# Altium integrated library Analog Devices Operational Amplifiers.IntLib: 2102 symbols (part 43 of 70)
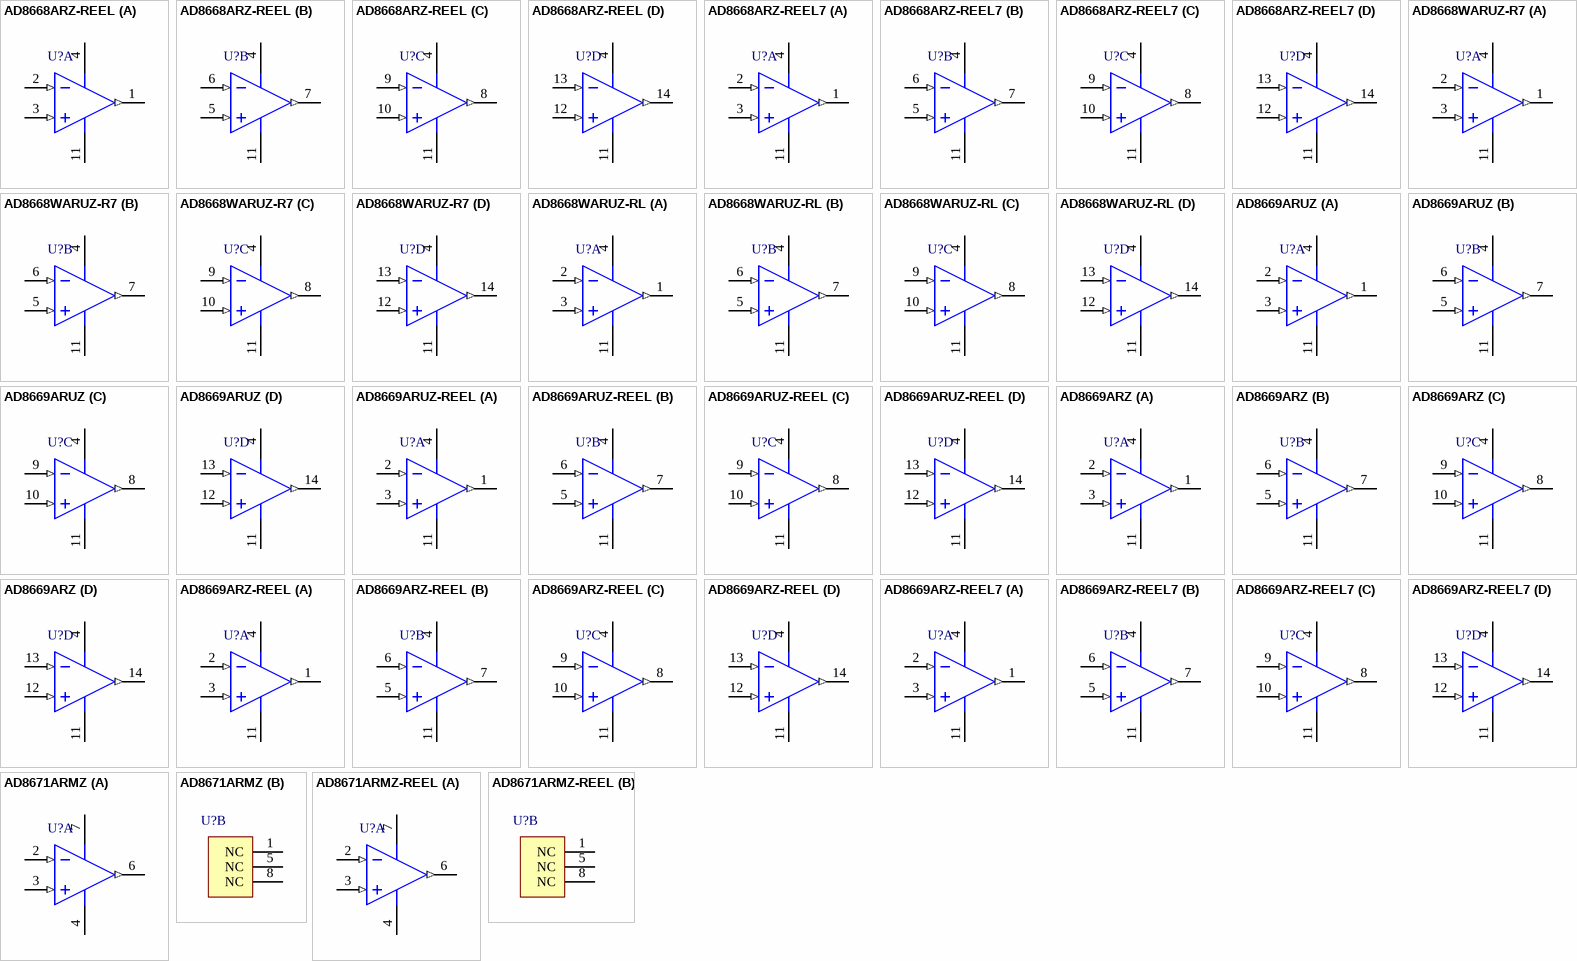
[diagram p156: symbols AD8668ARZ-REEL to AD8671ARMZ-REEL]

## AD8669ARUZ-REEL
designator U?
Quad Channel Single-Supply Operation Operational Amplifier, 520 KHz BW, 260 mV/us SR, Industrial, 14-pin SOP (RU-14), Reel; Generic Part Number: AD8669; Manufacturer: Analog Devices; PartNumber: AD8669ARUZ-REEL; Amplifiers Per Package: 4; Input Bias Current: 300fA; Input Offset Voltage: 30uV; Iq/Amp: 285uA; Small Signal Bandwidth: 520KHz; V Span Max: 16V; V Span Min: 5V; DatasheetVersion: Rev. B; PackageReference: RU-14; PackageDescription: 14-Pin Thin Shrink Small Outline Package, Body 5 x 4.4 mm, Pitch 0.65 mm; Supplier 1: Digi-Key; Supplier Part Number 1: AD8669ARUZ-REEL-ND; Supplier 2: Newark; Supplier Part Number 2: 02P7485; Slew Rate: 260mV/us; Mounting Technology: Surface Mount; Code_JEDEC: MO-153AB-1; ComponentLink1Description: Manufacturer URL; ComponentLink1URL: http://www.analog.com/en/index.html; ComponentLink2Description: Datasheet; ComponentLink2URL: http://www.analog.com/static/imported-files/data_sheets/AD8663_8667_8669.pdf; ComponentLink3Description: Package Specification; ComponentLink3URL: http://www.analog.com/static/imported-files/packages/36057385283879153717235186773RU14.pdf
footprint ADI-RU-14_N (SOP, 14-Leads, Body 5x4.4mm, Pitch 0.65mm, IPC Medium Density)
footprint ADI-RU-14_L (SOP, 14-Leads, Body 5x4.4mm, Pitch 0.65mm, IPC High Density)
footprint ADI-RU-14_M (SOP, 14-Leads, Body 5x4.4mm, Pitch 0.65mm, IPC Low Density)
pins on every part: 4 +V (power), 11 -V (power)
part A pins: 1 OUT A (out), 2 -IN A (in), 3 +IN A (in)
part B pins: 5 +IN B (in), 6 -IN B (in), 7 OUT B (out)
part C pins: 8 OUT C (out), 9 -IN C (in), 10 +IN C (in)
part D pins: 12 +IN D (in), 13 -IN D (in), 14 OUT D (out)

## AD8669ARZ
designator U?
Quad Channel Single-Supply Operation Operational Amplifier, 520 KHz BW, 260 mV/us SR, Industrial, 14-pin SOIC (R-14), Tube; Generic Part Number: AD8669; Manufacturer: Analog Devices; PartNumber: AD8669ARZ; Amplifiers Per Package: 4; Input Bias Current: 300fA; Input Offset Voltage: 30uV; Iq/Amp: 285uA; Small Signal Bandwidth: 520KHz; V Span Max: 16V; V Span Min: 5V; DatasheetVersion: Rev. B; PackageVersion: 060606-A; PackageReference: R-14; PackageDescription: 14-Pin Standard Small Outline Package, Body 8.65 x 3.9 mm, Pitch 1.27 mm; Supplier 1: Digi-Key; Supplier Part Number 1: AD8669ARZ-ND; Supplier 2: Newark; Supplier Part Number 2: 64M7596; Slew Rate: 260mV/us; Mounting Technology: Surface Mount; Code_JEDEC: MS-012-AB; ComponentLink1Description: Manufacturer URL; ComponentLink1URL: http://www.analog.com/en/index.html; ComponentLink2Description: Datasheet; ComponentLink2URL: http://www.analog.com/static/imported-files/data_sheets/AD8663_8667_8669.pdf; ComponentLink3Description: Package Specification; ComponentLink3URL: http://www.analog.com/static/imported-files/packages/PKG_PDF/SOIC_Narrow%20(R)/R_14.pdf
footprint ADI-R-14_N (SOIC, 14-Leads, Body 8.65x3.9mm, Pitch 1.27mm, IPC Medium Density)
footprint ADI-R-14_L (SOIC, 14-Leads, Body 8.65x3.9mm, Pitch 1.27mm, IPC High Density)
footprint ADI-R-14_M (SOIC, 14-Leads, Body 8.65x3.9mm, Pitch 1.27mm, IPC Low Density)
pins on every part: 4 +V (power), 11 -V (power)
part A pins: 1 OUT A (out), 2 -IN A (in), 3 +IN A (in)
part B pins: 5 +IN B (in), 6 -IN B (in), 7 OUT B (out)
part C pins: 8 OUT C (out), 9 -IN C (in), 10 +IN C (in)
part D pins: 12 +IN D (in), 13 -IN D (in), 14 OUT D (out)

## AD8669ARZ-REEL
designator U?
Quad Channel Single-Supply Operation Operational Amplifier, 520 KHz BW, 260 mV/us SR, Industrial, 14-pin SOIC (R-14), Reel; Generic Part Number: AD8669; Manufacturer: Analog Devices; PartNumber: AD8669ARZ-REEL; Amplifiers Per Package: 4; Input Bias Current: 300fA; Input Offset Voltage: 30uV; Iq/Amp: 285uA; Small Signal Bandwidth: 520KHz; V Span Max: 16V; V Span Min: 5V; DatasheetVersion: Rev. B; PackageVersion: 060606-A; PackageReference: R-14; PackageDescription: 14-Pin Standard Small Outline Package, Body 8.65 x 3.9 mm, Pitch 1.27 mm; Supplier 1: Digi-Key; Supplier Part Number 1: AD8669ARZ-REEL-ND; Slew Rate: 260mV/us; Mounting Technology: Surface Mount; Code_JEDEC: MS-012-AB; ComponentLink1Description: Manufacturer URL; ComponentLink1URL: http://www.analog.com/en/index.html; ComponentLink2Description: Datasheet; ComponentLink2URL: http://www.analog.com/static/imported-files/data_sheets/AD8663_8667_8669.pdf; ComponentLink3Description: Package Specification; ComponentLink3URL: http://www.analog.com/static/imported-files/packages/PKG_PDF/SOIC_Narrow%20(R)/R_14.pdf
footprint ADI-R-14_N (SOIC, 14-Leads, Body 8.65x3.9mm, Pitch 1.27mm, IPC Medium Density)
footprint ADI-R-14_L (SOIC, 14-Leads, Body 8.65x3.9mm, Pitch 1.27mm, IPC High Density)
footprint ADI-R-14_M (SOIC, 14-Leads, Body 8.65x3.9mm, Pitch 1.27mm, IPC Low Density)
pins on every part: 4 +V (power), 11 -V (power)
part A pins: 1 OUT A (out), 2 -IN A (in), 3 +IN A (in)
part B pins: 5 +IN B (in), 6 -IN B (in), 7 OUT B (out)
part C pins: 8 OUT C (out), 9 -IN C (in), 10 +IN C (in)
part D pins: 12 +IN D (in), 13 -IN D (in), 14 OUT D (out)

## AD8669ARZ-REEL7
designator U?
Quad Channel Single-Supply Operation Operational Amplifier, 520 KHz BW, 260 mV/us SR, Industrial, 14-pin SOIC (R-14), Reel; Generic Part Number: AD8669; Manufacturer: Analog Devices; PartNumber: AD8669ARZ-REEL7; Amplifiers Per Package: 4; Input Bias Current: 300fA; Input Offset Voltage: 30uV; Iq/Amp: 285uA; Small Signal Bandwidth: 520KHz; V Span Max: 16V; V Span Min: 5V; DatasheetVersion: Rev. B; PackageVersion: 060606-A; PackageReference: R-14; PackageDescription: 14-Pin Standard Small Outline Package, Body 8.65 x 3.9 mm, Pitch 1.27 mm; Supplier 1: Digi-Key; Supplier Part Number 1: AD8669ARZ-REEL7-ND; Slew Rate: 260mV/us; Mounting Technology: Surface Mount; Code_JEDEC: MS-012-AB; ComponentLink1Description: Manufacturer URL; ComponentLink1URL: http://www.analog.com/en/index.html; ComponentLink2Description: Datasheet; ComponentLink2URL: http://www.analog.com/static/imported-files/data_sheets/AD8663_8667_8669.pdf; ComponentLink3Description: Package Specification; ComponentLink3URL: http://www.analog.com/static/imported-files/packages/PKG_PDF/SOIC_Narrow%20(R)/R_14.pdf
footprint ADI-R-14_N (SOIC, 14-Leads, Body 8.65x3.9mm, Pitch 1.27mm, IPC Medium Density)
footprint ADI-R-14_L (SOIC, 14-Leads, Body 8.65x3.9mm, Pitch 1.27mm, IPC High Density)
footprint ADI-R-14_M (SOIC, 14-Leads, Body 8.65x3.9mm, Pitch 1.27mm, IPC Low Density)
pins on every part: 4 +V (power), 11 -V (power)
part A pins: 1 OUT A (out), 2 -IN A (in), 3 +IN A (in)
part B pins: 5 +IN B (in), 6 -IN B (in), 7 OUT B (out)
part C pins: 8 OUT C (out), 9 -IN C (in), 10 +IN C (in)
part D pins: 12 +IN D (in), 13 -IN D (in), 14 OUT D (out)

## AD8671ARMZ
designator U?
Single Channel Wide Bandwidth Operational Amplifier, 10 MHz BW, 4 V/us SR, Industrial, 8-pin SOP (RM-8), Tube; Generic Part Number: AD8671; Manufacturer: Analog Devices; PartNumber: AD8671ARMZ; Amplifiers Per Package: 1; Input Bias Current: 3nA; Input Offset Voltage: 20uV; Iq/Amp: 3.5mA; Slew Rate: 4V/us; Small Signal Bandwidth: 10MHz; V Span Max: 36V; V Span Min: 10V; DatasheetVersion: Rev. E; PackageReference: RM-8; PackageDescription: 8-Pin Mini Small Outline Package, Body 3 x 3 mm, Pitch 0.65 mm; Supplier 1: Digi-Key; Supplier Part Number 1: AD8671ARMZ-ND; Supplier 2: Farnell; Supplier Part Number 2: 1739328; Supplier 3: Newark; Supplier Part Number 3: 19P8315; Mounting Technology: Surface Mount; Code_JEDEC: MO-187-AA; ComponentLink1Description: Manufacturer URL; ComponentLink1URL: http://www.analog.com/en/index.html; ComponentLink2Description: Datasheet; ComponentLink2URL: http://www.analog.com/static/imported-files/data_sheets/AD8671_8672_8674.pdf; ComponentLink3Description: Package Specification; ComponentLink3URL: http://www.analog.com/static/imported-files/packages/PKG_PDF/MSOP%28RM%29/RM_8.pdf
footprint ADI-RM-8_N (SOP, 8-Leads, Body 3x3mm, Pitch 0.65mm, IPC Medium Density)
footprint ADI-RM-8_L (SOP, 8-Leads, Body 3x3mm, Pitch 0.65mm, IPC High Density)
footprint ADI-RM-8_M (SOP, 8-Leads, Body 3x3mm, Pitch 0.65mm, IPC Low Density)
part A pins: 2 -IN (in), 3 +IN (in), 4 -V (power), 6 OUT (out), 7 +V (power)
part B pins: 1 NC, 5 NC, 8 NC

## AD8671ARMZ-REEL
designator U?
Single Channel Wide Bandwidth Operational Amplifier, 10 MHz BW, 4 V/us SR, Industrial, 8-pin SOP (RM-8), Reel; Generic Part Number: AD8671; Manufacturer: Analog Devices; PartNumber: AD8671ARMZ-REEL; Amplifiers Per Package: 1; Input Bias Current: 3nA; Input Offset Voltage: 20uV; Iq/Amp: 3.5mA; Slew Rate: 4V/us; Small Signal Bandwidth: 10MHz; V Span Max: 36V; V Span Min: 10V; DatasheetVersion: Rev. E; PackageReference: RM-8; PackageDescription: 8-Pin Mini Small Outline Package, Body 3 x 3 mm, Pitch 0.65 mm; Supplier 1: Digi-Key; Supplier Part Number 1: AD8671ARMZ-REELTR-ND; Supplier 2: Digi-Key; Supplier Part Number 2: AD8671ARMZ-REELCT-ND; Supplier 3: Digi-Key; Supplier Part Number 3: AD8671ARMZ-REELDKR-ND; Supplier 4: Newark; Supplier Part Number 4: 59K7060; Mounting Technology: Surface Mount; Code_JEDEC: MO-187-AA; ComponentLink1Description: Manufacturer URL; ComponentLink1URL: http://www.analog.com/en/index.html; ComponentLink2Description: Datasheet; ComponentLink2URL: http://www.analog.com/static/imported-files/data_sheets/AD8671_8672_8674.pdf; ComponentLink3Description: Package Specification; ComponentLink3URL: http://www.analog.com/static/imported-files/packages/PKG_PDF/MSOP%28RM%29/RM_8.pdf
footprint ADI-RM-8_N (SOP, 8-Leads, Body 3x3mm, Pitch 0.65mm, IPC Medium Density)
footprint ADI-RM-8_L (SOP, 8-Leads, Body 3x3mm, Pitch 0.65mm, IPC High Density)
footprint ADI-RM-8_M (SOP, 8-Leads, Body 3x3mm, Pitch 0.65mm, IPC Low Density)
part A pins: 2 -IN (in), 3 +IN (in), 4 -V (power), 6 OUT (out), 7 +V (power)
part B pins: 1 NC, 5 NC, 8 NC

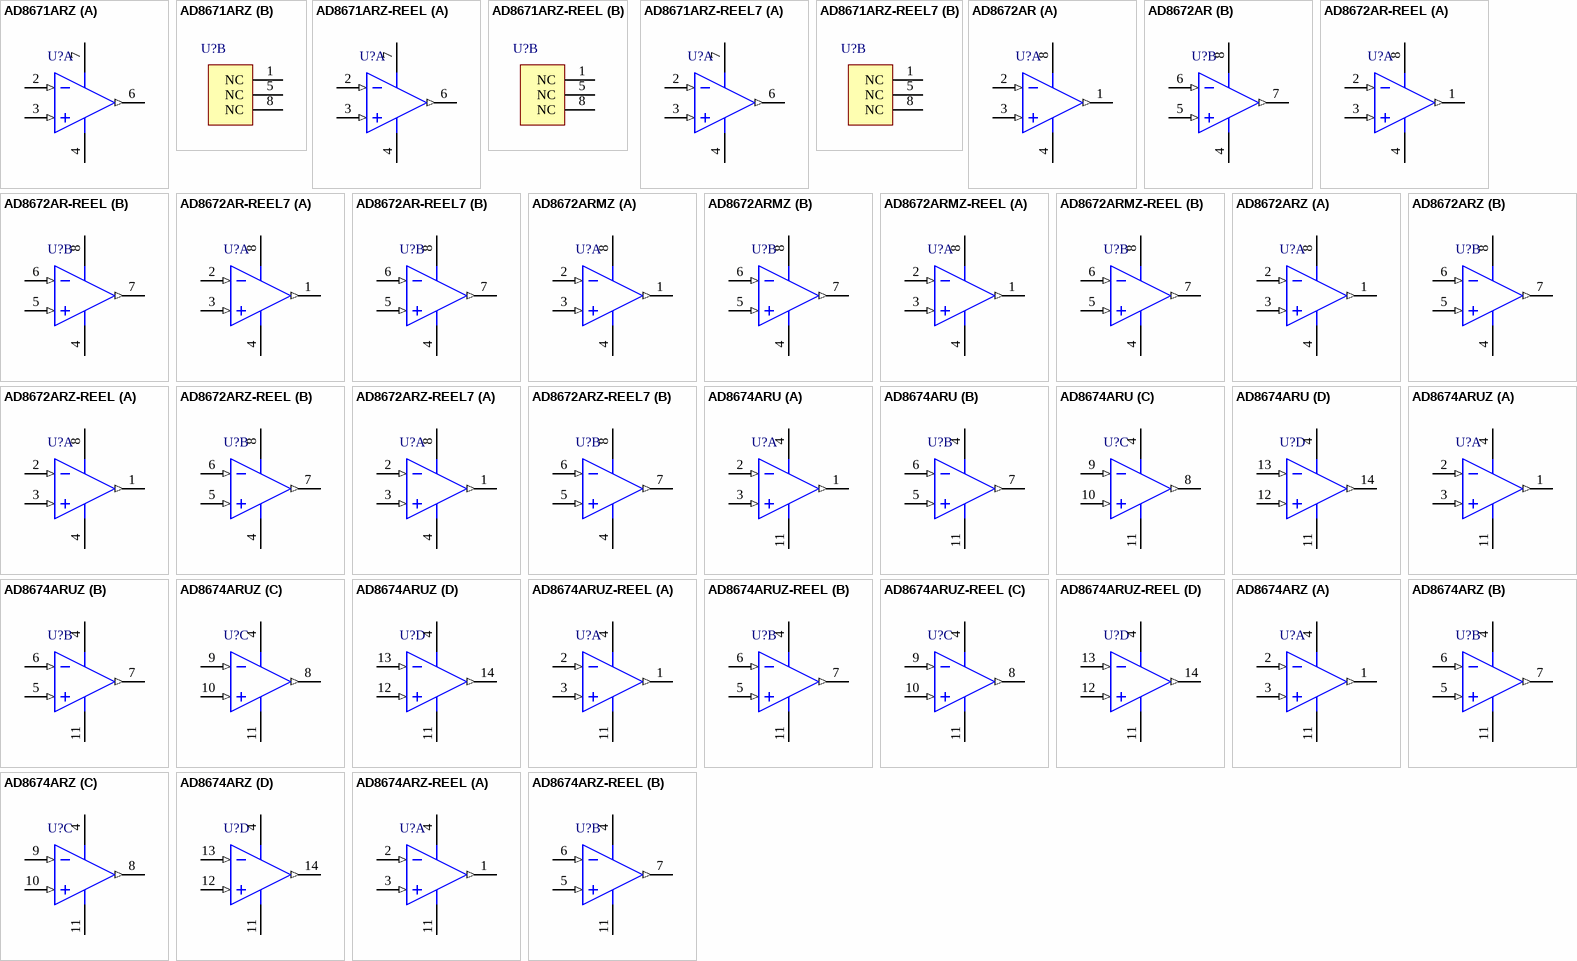
[diagram p67: symbols AD8671ARZ to AD8674ARZ-REEL]

## AD8671ARZ
designator U?
Single Channel Wide Bandwidth Operational Amplifier, 10 MHz BW, 4 V/us SR, Industrial, 8-pin SOIC (R-8), Tube; Generic Part Number: AD8671; Manufacturer: Analog Devices; PartNumber: AD8671ARZ; Amplifiers Per Package: 1; Input Bias Current: 3nA; Input Offset Voltage: 20uV; Iq/Amp: 3.5mA; Slew Rate: 4V/us; Small Signal Bandwidth: 10MHz; V Span Max: 36V; V Span Min: 10V; DatasheetVersion: Rev. E; PackageVersion: 060506-A; PackageReference: R-8; PackageDescription: 8-Pin Standard Small Outline Package, Body 3.9 x 4.9 mm, Pitch 1.27 mm; Supplier 1: Digi-Key; Supplier Part Number 1: AD8671ARZ-ND; Supplier 2: Farnell; Supplier Part Number 2: 1143298; Supplier 3: Newark; Supplier Part Number 3: 19M0998; Mounting Technology: Surface Mount; Code_JEDEC: MS-012-AA; ComponentLink1Description: Manufacturer URL; ComponentLink1URL: http://www.analog.com/en/index.html; ComponentLink2Description: Datasheet; ComponentLink2URL: http://www.analog.com/static/imported-files/data_sheets/AD8671_8672_8674.pdf; ComponentLink3Description: Package Specification; ComponentLink3URL: http://www.analog.com/static/imported-files/packages/PKG_PDF/SOIC_Narrow%20(R)/R_8.pdf
footprint ADI-R-8_N (SOIC, 8-Leads, Body 4.9x3.9mm, Pitch 1.27mm, IPC Medium Density)
footprint ADI-R-8_L (SOIC, 8-Leads, Body 4.9x3.9mm, Pitch 1.27mm, IPC High Density)
footprint ADI-R-8_M (SOIC, 8-Leads, Body 4.9x3.9mm, Pitch 1.27mm, IPC Low Density)
part A pins: 2 -IN (in), 3 +IN (in), 4 -V (power), 6 OUT (out), 7 +V (power)
part B pins: 1 NC, 5 NC, 8 NC

## AD8671ARZ-REEL
designator U?
Single Channel Wide Bandwidth Operational Amplifier, 10 MHz BW, 4 V/us SR, Industrial, 8-pin SOIC (R-8), Reel; Generic Part Number: AD8671; Manufacturer: Analog Devices; PartNumber: AD8671ARZ-REEL; Amplifiers Per Package: 1; Input Bias Current: 3nA; Input Offset Voltage: 20uV; Iq/Amp: 3.5mA; Slew Rate: 4V/us; Small Signal Bandwidth: 10MHz; V Span Max: 36V; V Span Min: 10V; DatasheetVersion: Rev. E; PackageVersion: 060506-A; PackageReference: R-8; PackageDescription: 8-Pin Standard Small Outline Package, Body 3.9 x 4.9 mm, Pitch 1.27 mm; Supplier 1: Digi-Key; Supplier Part Number 1: AD8671ARZ-REEL-ND; Supplier 2: Newark; Supplier Part Number 2: 59K7063; Mounting Technology: Surface Mount; Code_JEDEC: MS-012-AA; ComponentLink1Description: Manufacturer URL; ComponentLink1URL: http://www.analog.com/en/index.html; ComponentLink2Description: Datasheet; ComponentLink2URL: http://www.analog.com/static/imported-files/data_sheets/AD8671_8672_8674.pdf; ComponentLink3Description: Package Specification; ComponentLink3URL: http://www.analog.com/static/imported-files/packages/PKG_PDF/SOIC_Narrow%20(R)/R_8.pdf
footprint ADI-R-8_N (SOIC, 8-Leads, Body 4.9x3.9mm, Pitch 1.27mm, IPC Medium Density)
footprint ADI-R-8_L (SOIC, 8-Leads, Body 4.9x3.9mm, Pitch 1.27mm, IPC High Density)
footprint ADI-R-8_M (SOIC, 8-Leads, Body 4.9x3.9mm, Pitch 1.27mm, IPC Low Density)
part A pins: 2 -IN (in), 3 +IN (in), 4 -V (power), 6 OUT (out), 7 +V (power)
part B pins: 1 NC, 5 NC, 8 NC

## AD8671ARZ-REEL7
designator U?
Single Channel Wide Bandwidth Operational Amplifier, 10 MHz BW, 4 V/us SR, Industrial, 8-pin SOIC (R-8), Reel; Generic Part Number: AD8671; Manufacturer: Analog Devices; PartNumber: AD8671ARZ-REEL7; Amplifiers Per Package: 1; Input Bias Current: 3nA; Input Offset Voltage: 20uV; Iq/Amp: 3.5mA; Slew Rate: 4V/us; Small Signal Bandwidth: 10MHz; V Span Max: 36V; V Span Min: 10V; DatasheetVersion: Rev. E; PackageVersion: 060506-A; PackageReference: R-8; PackageDescription: 8-Pin Standard Small Outline Package, Body 3.9 x 4.9 mm, Pitch 1.27 mm; Supplier 1: Digi-Key; Supplier Part Number 1: AD8671ARZ-REEL7-ND; Supplier 2: Newark; Supplier Part Number 2: 59K7064; Mounting Technology: Surface Mount; Code_JEDEC: MS-012-AA; ComponentLink1Description: Manufacturer URL; ComponentLink1URL: http://www.analog.com/en/index.html; ComponentLink2Description: Datasheet; ComponentLink2URL: http://www.analog.com/static/imported-files/data_sheets/AD8671_8672_8674.pdf; ComponentLink3Description: Package Specification; ComponentLink3URL: http://www.analog.com/static/imported-files/packages/PKG_PDF/SOIC_Narrow%20(R)/R_8.pdf
footprint ADI-R-8_N (SOIC, 8-Leads, Body 4.9x3.9mm, Pitch 1.27mm, IPC Medium Density)
footprint ADI-R-8_L (SOIC, 8-Leads, Body 4.9x3.9mm, Pitch 1.27mm, IPC High Density)
footprint ADI-R-8_M (SOIC, 8-Leads, Body 4.9x3.9mm, Pitch 1.27mm, IPC Low Density)
part A pins: 2 -IN (in), 3 +IN (in), 4 -V (power), 6 OUT (out), 7 +V (power)
part B pins: 1 NC, 5 NC, 8 NC

## AD8672AR
designator U?
Double Channel Wide Bandwidth Operational Amplifier, 10 MHz BW, 4 V/us SR, Industrial, 8-pin SOIC (R-8), Tube; Generic Part Number: AD8672; Manufacturer: Analog Devices; PartNumber: AD8672AR; Amplifiers Per Package: 2; Input Bias Current: 3nA; Input Offset Voltage: 20uV; Iq/Amp: 3.5mA; Slew Rate: 4V/us; Small Signal Bandwidth: 10MHz; V Span Max: 36V; V Span Min: 10V; DatasheetVersion: Rev. E; PackageVersion: 060506-A; PackageReference: R-8; PackageDescription: 8-Pin Standard Small Outline Package, Body 3.9 x 4.9 mm, Pitch 1.27 mm; Supplier 1: Digi-Key; Supplier Part Number 1: AD8672AR-ND; Mounting Technology: Surface Mount; Code_JEDEC: MS-012-AA; ComponentLink1Description: Manufacturer URL; ComponentLink1URL: http://www.analog.com/en/index.html; ComponentLink2Description: Datasheet; ComponentLink2URL: http://www.analog.com/static/imported-files/data_sheets/AD8671_8672_8674.pdf; ComponentLink3Description: Package Specification; ComponentLink3URL: http://www.analog.com/static/imported-files/packages/PKG_PDF/SOIC_Narrow%20(R)/R_8.pdf; ComponentLink4Description: Reference Circuit; ComponentLink4URL: http://www.analog.com/en/all-operational-amplifiers-op-amps/operational-amplifiers-op-amps/ad8672/products/product.html#product-recommendations
footprint ADI-R-8_N (SOIC, 8-Leads, Body 4.9x3.9mm, Pitch 1.27mm, IPC Medium Density)
footprint ADI-R-8_L (SOIC, 8-Leads, Body 4.9x3.9mm, Pitch 1.27mm, IPC High Density)
footprint ADI-R-8_M (SOIC, 8-Leads, Body 4.9x3.9mm, Pitch 1.27mm, IPC Low Density)
pins on every part: 4 -V (power), 8 +V (power)
part A pins: 1 OUT A (out), 2 -IN A (in), 3 +IN A (in)
part B pins: 5 +IN B (in), 6 -IN B (in), 7 OUT B (out)

## AD8672AR-REEL
designator U?
Double Channel Wide Bandwidth Operational Amplifier, 10 MHz BW, 4 V/us SR, Industrial, 8-pin SOIC (R-8), Reel; Generic Part Number: AD8672; Manufacturer: Analog Devices; PartNumber: AD8672AR-REEL; Amplifiers Per Package: 2; Input Bias Current: 3nA; Input Offset Voltage: 20uV; Iq/Amp: 3.5mA; Slew Rate: 4V/us; Small Signal Bandwidth: 10MHz; V Span Max: 30V; V Span Min: 10V; DatasheetVersion: Rev. E; PackageVersion: 060506-A; PackageReference: R-8; PackageDescription: 8-Pin Standard Small Outline Package, Body 3.9 x 4.9 mm, Pitch 1.27 mm; Supplier 1: Digi-Key; Supplier Part Number 1: AD8672AR-REEL-ND; Mounting Technology: Surface Mount; Code_JEDEC: MS-012-AA; ComponentLink1Description: Manufacturer URL; ComponentLink1URL: http://www.analog.com/en/index.html; ComponentLink2Description: Datasheet; ComponentLink2URL: http://www.analog.com/static/imported-files/data_sheets/AD8671_8672_8674.pdf; ComponentLink3Description: Package Specification; ComponentLink3URL: http://www.analog.com/static/imported-files/packages/PKG_PDF/SOIC_Narrow%20(R)/R_8.pdf; ComponentLink4Description: Reference Circuit; ComponentLink4URL: http://www.analog.com/en/all-operational-amplifiers-op-amps/operational-amplifiers-op-amps/ad8672/products/product.html#product-recommendations
footprint ADI-R-8_N (SOIC, 8-Leads, Body 4.9x3.9mm, Pitch 1.27mm, IPC Medium Density)
footprint ADI-R-8_L (SOIC, 8-Leads, Body 4.9x3.9mm, Pitch 1.27mm, IPC High Density)
footprint ADI-R-8_M (SOIC, 8-Leads, Body 4.9x3.9mm, Pitch 1.27mm, IPC Low Density)
pins on every part: 4 -V (power), 8 +V (power)
part A pins: 1 OUT A (out), 2 -IN A (in), 3 +IN A (in)
part B pins: 5 +IN B (in), 6 -IN B (in), 7 OUT B (out)

## AD8672AR-REEL7
designator U?
Double Channel Wide Bandwidth Operational Amplifier, 10 MHz BW, 4 V/us SR, Industrial, 8-pin SOIC (R-8), Reel; Generic Part Number: AD8672; Manufacturer: Analog Devices; PartNumber: AD8672AR-REEL7; Amplifiers Per Package: 2; Input Bias Current: 3nA; Input Offset Voltage: 20uV; Iq/Amp: 3.5mA; Slew Rate: 4V/us; Small Signal Bandwidth: 10MHz; V Span Max: 30V; V Span Min: 10V; DatasheetVersion: Rev. E; PackageVersion: 060506-A; PackageReference: R-8; PackageDescription: 8-Pin Standard Small Outline Package, Body 3.9 x 4.9 mm, Pitch 1.27 mm; Supplier 1: Digi-Key; Supplier Part Number 1: AD8672AR-REEL7-ND; Mounting Technology: Surface Mount; Code_JEDEC: MS-012-AA; ComponentLink1Description: Manufacturer URL; ComponentLink1URL: http://www.analog.com/en/index.html; ComponentLink2Description: Datasheet; ComponentLink2URL: http://www.analog.com/static/imported-files/data_sheets/AD8671_8672_8674.pdf; ComponentLink3Description: Package Specification; ComponentLink3URL: http://www.analog.com/static/imported-files/packages/PKG_PDF/SOIC_Narrow%20(R)/R_8.pdf; ComponentLink4Description: Reference Circuit; ComponentLink4URL: http://www.analog.com/en/all-operational-amplifiers-op-amps/operational-amplifiers-op-amps/ad8672/products/product.html#product-recommendations
footprint ADI-R-8_N (SOIC, 8-Leads, Body 4.9x3.9mm, Pitch 1.27mm, IPC Medium Density)
footprint ADI-R-8_L (SOIC, 8-Leads, Body 4.9x3.9mm, Pitch 1.27mm, IPC High Density)
footprint ADI-R-8_M (SOIC, 8-Leads, Body 4.9x3.9mm, Pitch 1.27mm, IPC Low Density)
pins on every part: 4 -V (power), 8 +V (power)
part A pins: 1 OUT A (out), 2 -IN A (in), 3 +IN A (in)
part B pins: 5 +IN B (in), 6 -IN B (in), 7 OUT B (out)

## AD8672ARMZ
designator U?
Double Channel Wide Bandwidth Operational Amplifier, 10 MHz BW, 4 V/us SR, Industrial, 8-pin SOP (RM-8), Tube; Generic Part Number: AD8672; Manufacturer: Analog Devices; PartNumber: AD8672ARMZ; Amplifiers Per Package: 2; Input Bias Current: 3nA; Input Offset Voltage: 20uV; Iq/Amp: 3.5mA; Slew Rate: 4V/us; Small Signal Bandwidth: 10MHz; V Span Max: 30V; V Span Min: 10V; DatasheetVersion: Rev. E; PackageReference: RM-8; PackageDescription: 8-Pin Mini Small Outline Package, Body 3 x 3 mm, Pitch 0.65 mm; Supplier 1: Digi-Key; Supplier Part Number 1: AD8672ARMZ-ND; Supplier 2: Farnell; Supplier Part Number 2: 2102512; Supplier 3: Newark; Supplier Part Number 3: 19P8316; Mounting Technology: Surface Mount; Code_JEDEC: MO-187-AA; ComponentLink1Description: Manufacturer URL; ComponentLink1URL: http://www.analog.com/en/index.html; ComponentLink2Description: Datasheet; ComponentLink2URL: http://www.analog.com/static/imported-files/data_sheets/AD8671_8672_8674.pdf; ComponentLink3Description: Package Specification; ComponentLink3URL: http://www.analog.com/static/imported-files/packages/PKG_PDF/MSOP%28RM%29/RM_8.pdf; ComponentLink4Description: Reference Circuit; ComponentLink4URL: http://www.analog.com/en/all-operational-amplifiers-op-amps/operational-amplifiers-op-amps/ad8672/products/product.html#product-recommendations
footprint ADI-RM-8_N (SOP, 8-Leads, Body 3x3mm, Pitch 0.65mm, IPC Medium Density)
footprint ADI-RM-8_L (SOP, 8-Leads, Body 3x3mm, Pitch 0.65mm, IPC High Density)
footprint ADI-RM-8_M (SOP, 8-Leads, Body 3x3mm, Pitch 0.65mm, IPC Low Density)
pins on every part: 4 -V (power), 8 +V (power)
part A pins: 1 OUT A (out), 2 -IN A (in), 3 +IN A (in)
part B pins: 5 +IN B (in), 6 -IN B (in), 7 OUT B (out)

## AD8672ARMZ-REEL
designator U?
Double Channel Wide Bandwidth Operational Amplifier, 10 MHz BW, 4 V/us SR, Industrial, 8-pin SOP (RM-8), Reel; Generic Part Number: AD8672; Manufacturer: Analog Devices; PartNumber: AD8672ARMZ-REEL; Amplifiers Per Package: 2; Input Bias Current: 3nA; Input Offset Voltage: 20uV; Iq/Amp: 3.5mA; Slew Rate: 4V/us; Small Signal Bandwidth: 10MHz; V Span Max: 30V; V Span Min: 10V; DatasheetVersion: Rev. E; PackageReference: RM-8; PackageDescription: 8-Pin Mini Small Outline Package, Body 3 x 3 mm, Pitch 0.65 mm; Supplier 1: Digi-Key; Supplier Part Number 1: AD8672ARMZ-REELTR-ND; Supplier 2: Digi-Key; Supplier Part Number 2: AD8672ARMZ-REELCT-ND; Supplier 3: Digi-Key; Supplier Part Number 3: AD8672ARMZ-REELDKR-ND; Supplier 4: Newark; Supplier Part Number 4: 59K7065; Mounting Technology: Surface Mount; Code_JEDEC: MO-187-AA; ComponentLink1Description: Manufacturer URL; ComponentLink1URL: http://www.analog.com/en/index.html; ComponentLink2Description: Datasheet; ComponentLink2URL: http://www.analog.com/static/imported-files/data_sheets/AD8671_8672_8674.pdf; ComponentLink3Description: Package Specification; ComponentLink3URL: http://www.analog.com/static/imported-files/packages/PKG_PDF/MSOP%28RM%29/RM_8.pdf; ComponentLink4Description: Reference Circuit; ComponentLink4URL: http://www.analog.com/en/all-operational-amplifiers-op-amps/operational-amplifiers-op-amps/ad8672/products/product.html#product-recommendations
footprint ADI-RM-8_N (SOP, 8-Leads, Body 3x3mm, Pitch 0.65mm, IPC Medium Density)
footprint ADI-RM-8_L (SOP, 8-Leads, Body 3x3mm, Pitch 0.65mm, IPC High Density)
footprint ADI-RM-8_M (SOP, 8-Leads, Body 3x3mm, Pitch 0.65mm, IPC Low Density)
pins on every part: 4 -V (power), 8 +V (power)
part A pins: 1 OUT A (out), 2 -IN A (in), 3 +IN A (in)
part B pins: 5 +IN B (in), 6 -IN B (in), 7 OUT B (out)

## AD8672ARZ
designator U?
Double Channel Wide Bandwidth Operational Amplifier, 10 MHz BW, 4 V/us SR, Industrial, 8-pin SOIC (R-8), Tube; Generic Part Number: AD8672; Manufacturer: Analog Devices; PartNumber: AD8672ARZ; Amplifiers Per Package: 2; Input Bias Current: 3nA; Input Offset Voltage: 20uV; Iq/Amp: 3.5mA; Slew Rate: 4V/us; Small Signal Bandwidth: 10MHz; V Span Max: 30V; V Span Min: 10V; DatasheetVersion: Rev. E; PackageVersion: 060506-A; PackageReference: R-8; PackageDescription: 8-Pin Standard Small Outline Package, Body 3.9 x 4.9 mm, Pitch 1.27 mm; Supplier 1: Digi-Key; Supplier Part Number 1: AD8672ARZ-ND; Supplier 2: Farnell; Supplier Part Number 2: 1581957; Supplier 3: Newark; Supplier Part Number 3: 19M0999; Mounting Technology: Surface Mount; Code_JEDEC: MS-012-AA; ComponentLink1Description: Manufacturer URL; ComponentLink1URL: http://www.analog.com/en/index.html; ComponentLink2Description: Datasheet; ComponentLink2URL: http://www.analog.com/static/imported-files/data_sheets/AD8671_8672_8674.pdf; ComponentLink3Description: Package Specification; ComponentLink3URL: http://www.analog.com/static/imported-files/packages/PKG_PDF/SOIC_Narrow%20(R)/R_8.pdf; ComponentLink4Description: Reference Circuit; ComponentLink4URL: http://www.analog.com/en/all-operational-amplifiers-op-amps/operational-amplifiers-op-amps/ad8672/products/product.html#product-recommendations
footprint ADI-R-8_N (SOIC, 8-Leads, Body 4.9x3.9mm, Pitch 1.27mm, IPC Medium Density)
footprint ADI-R-8_L (SOIC, 8-Leads, Body 4.9x3.9mm, Pitch 1.27mm, IPC High Density)
footprint ADI-R-8_M (SOIC, 8-Leads, Body 4.9x3.9mm, Pitch 1.27mm, IPC Low Density)
pins on every part: 4 -V (power), 8 +V (power)
part A pins: 1 OUT A (out), 2 -IN A (in), 3 +IN A (in)
part B pins: 5 +IN B (in), 6 -IN B (in), 7 OUT B (out)

## AD8672ARZ-REEL
designator U?
Double Channel Wide Bandwidth Operational Amplifier, 10 MHz BW, 4 V/us SR, Industrial, 8-pin SOIC (R-8), Reel; Generic Part Number: AD8672; Manufacturer: Analog Devices; PartNumber: AD8672ARZ-REEL; Amplifiers Per Package: 2; Input Bias Current: 3nA; Input Offset Voltage: 20uV; Iq/Amp: 3.5mA; Slew Rate: 4V/us; Small Signal Bandwidth: 10MHz; V Span Max: 30V; V Span Min: 10V; DatasheetVersion: Rev. E; PackageVersion: 060506-A; PackageReference: R-8; PackageDescription: 8-Pin Standard Small Outline Package, Body 3.9 x 4.9 mm, Pitch 1.27 mm; Supplier 1: Digi-Key; Supplier Part Number 1: AD8672ARZ-REEL-ND; Supplier 2: Newark; Supplier Part Number 2: 59K7068; Mounting Technology: Surface Mount; Code_JEDEC: MS-012-AA; ComponentLink1Description: Manufacturer URL; ComponentLink1URL: http://www.analog.com/en/index.html; ComponentLink2Description: Datasheet; ComponentLink2URL: http://www.analog.com/static/imported-files/data_sheets/AD8671_8672_8674.pdf; ComponentLink3Description: Package Specification; ComponentLink3URL: http://www.analog.com/static/imported-files/packages/PKG_PDF/SOIC_Narrow%20(R)/R_8.pdf; ComponentLink4Description: Reference Circuit; ComponentLink4URL: http://www.analog.com/en/all-operational-amplifiers-op-amps/operational-amplifiers-op-amps/ad8672/products/product.html#product-recommendations
footprint ADI-R-8_N (SOIC, 8-Leads, Body 4.9x3.9mm, Pitch 1.27mm, IPC Medium Density)
footprint ADI-R-8_L (SOIC, 8-Leads, Body 4.9x3.9mm, Pitch 1.27mm, IPC High Density)
footprint ADI-R-8_M (SOIC, 8-Leads, Body 4.9x3.9mm, Pitch 1.27mm, IPC Low Density)
pins on every part: 4 -V (power), 8 +V (power)
part A pins: 1 OUT A (out), 2 -IN A (in), 3 +IN A (in)
part B pins: 5 +IN B (in), 6 -IN B (in), 7 OUT B (out)

## AD8672ARZ-REEL7
designator U?
Double Channel Wide Bandwidth Operational Amplifier, 10 MHz BW, 4 V/us SR, Industrial, 8-pin SOIC (R-8), Reel; Generic Part Number: AD8672; Manufacturer: Analog Devices; PartNumber: AD8672ARZ-REEL7; Amplifiers Per Package: 2; Input Bias Current: 3nA; Input Offset Voltage: 20uV; Iq/Amp: 3.5mA; Slew Rate: 4V/us; Small Signal Bandwidth: 10MHz; V Span Max: 30V; V Span Min: 10V; DatasheetVersion: Rev. E; PackageVersion: 060506-A; PackageReference: R-8; PackageDescription: 8-Pin Standard Small Outline Package, Body 3.9 x 4.9 mm, Pitch 1.27 mm; Supplier 1: Digi-Key; Supplier Part Number 1: AD8672ARZ-REEL7TR-ND; Supplier 2: Digi-Key; Supplier Part Number 2: AD8672ARZ-REEL7CT-ND; Supplier 3: Digi-Key; Supplier Part Number 3: AD8672ARZ-REEL7DKR-ND; Supplier 4: Newark; Supplier Part Number 4: 59K7069; Mounting Technology: Surface Mount; Code_JEDEC: MS-012-AA; ComponentLink1Description: Manufacturer URL; ComponentLink1URL: http://www.analog.com/en/index.html; ComponentLink2Description: Datasheet; ComponentLink2URL: http://www.analog.com/static/imported-files/data_sheets/AD8671_8672_8674.pdf; ComponentLink3Description: Package Specification; ComponentLink3URL: http://www.analog.com/static/imported-files/packages/PKG_PDF/SOIC_Narrow%20(R)/R_8.pdf; ComponentLink4Description: Reference Circuit; ComponentLink4URL: http://www.analog.com/en/all-operational-amplifiers-op-amps/operational-amplifiers-op-amps/ad8672/products/product.html#product-recommendations
footprint ADI-R-8_N (SOIC, 8-Leads, Body 4.9x3.9mm, Pitch 1.27mm, IPC Medium Density)
footprint ADI-R-8_L (SOIC, 8-Leads, Body 4.9x3.9mm, Pitch 1.27mm, IPC High Density)
footprint ADI-R-8_M (SOIC, 8-Leads, Body 4.9x3.9mm, Pitch 1.27mm, IPC Low Density)
pins on every part: 4 -V (power), 8 +V (power)
part A pins: 1 OUT A (out), 2 -IN A (in), 3 +IN A (in)
part B pins: 5 +IN B (in), 6 -IN B (in), 7 OUT B (out)

## AD8674ARU
designator U?
Quad Channel Wide Bandwidth Operational Amplifier, 10 MHz BW, 4 V/us SR, Industrial, 14-pin SOP (RU-14), Tube; Generic Part Number: AD8674; Manufacturer: Analog Devices; PartNumber: AD8674ARU; Amplifiers Per Package: 4; Input Bias Current: 3nA; Input Offset Voltage: 20uV; Iq/Amp: 3.5mA; Slew Rate: 4V/us; Small Signal Bandwidth: 10MHz; V Span Max: 36V; V Span Min: 10V; DatasheetVersion: Rev. E; PackageReference: RU-14; PackageDescription: 14-Pin Thin Shrink Small Outline Package, Body 5 x 4.4 mm, Pitch 0.65 mm; Supplier 1: Digi-Key; Supplier Part Number 1: AD8674ARU-ND; Mounting Technology: Surface Mount; Code_JEDEC: MO-153AB-1; ComponentLink1Description: Manufacturer URL; ComponentLink1URL: http://www.analog.com/en/index.html; ComponentLink2Description: Datasheet; ComponentLink2URL: http://www.analog.com/static/imported-files/data_sheets/AD8671_8672_8674.pdf; ComponentLink3Description: Package Specification; ComponentLink3URL: http://www.analog.com/static/imported-files/packages/36057385283879153717235186773RU14.pdf
footprint ADI-RU-14_N (SOP, 14-Leads, Body 5x4.4mm, Pitch 0.65mm, IPC Medium Density)
footprint ADI-RU-14_L (SOP, 14-Leads, Body 5x4.4mm, Pitch 0.65mm, IPC High Density)
footprint ADI-RU-14_M (SOP, 14-Leads, Body 5x4.4mm, Pitch 0.65mm, IPC Low Density)
pins on every part: 4 +V (power), 11 -V (power)
part A pins: 1 OUT A (out), 2 -IN A (in), 3 +IN A (in)
part B pins: 5 +IN B (in), 6 -IN B (in), 7 OUT B (out)
part C pins: 8 OUT C (out), 9 -IN C (in), 10 +IN C (in)
part D pins: 12 +IN D (in), 13 -IN D (in), 14 OUT D (out)

## AD8674ARUZ
designator U?
Quad Channel Wide Bandwidth Operational Amplifier, 10 MHz BW, 4 V/us SR, Industrial, 14-pin SOP (RU-14), Tube; Generic Part Number: AD8674; Manufacturer: Analog Devices; PartNumber: AD8674ARUZ; Amplifiers Per Package: 4; Input Bias Current: 3nA; Input Offset Voltage: 20uV; Iq/Amp: 3.5mA; Slew Rate: 4V/us; Small Signal Bandwidth: 10MHz; V Span Max: 36V; V Span Min: 10V; DatasheetVersion: Rev. E; PackageReference: RU-14; PackageDescription: 14-Pin Thin Shrink Small Outline Package, Body 5 x 4.4 mm, Pitch 0.65 mm; Supplier 1: Digi-Key; Supplier Part Number 1: AD8674ARUZ-ND; Supplier 2: Newark; Supplier Part Number 2: 59K7070; Mounting Technology: Surface Mount; Code_JEDEC: MO-153AB-1; ComponentLink1Description: Manufacturer URL; ComponentLink1URL: http://www.analog.com/en/index.html; ComponentLink2Description: Datasheet; ComponentLink2URL: http://www.analog.com/static/imported-files/data_sheets/AD8671_8672_8674.pdf; ComponentLink3Description: Package Specification; ComponentLink3URL: http://www.analog.com/static/imported-files/packages/36057385283879153717235186773RU14.pdf
footprint ADI-RU-14_N (SOP, 14-Leads, Body 5x4.4mm, Pitch 0.65mm, IPC Medium Density)
footprint ADI-RU-14_L (SOP, 14-Leads, Body 5x4.4mm, Pitch 0.65mm, IPC High Density)
footprint ADI-RU-14_M (SOP, 14-Leads, Body 5x4.4mm, Pitch 0.65mm, IPC Low Density)
pins on every part: 4 +V (power), 11 -V (power)
part A pins: 1 OUT A (out), 2 -IN A (in), 3 +IN A (in)
part B pins: 5 +IN B (in), 6 -IN B (in), 7 OUT B (out)
part C pins: 8 OUT C (out), 9 -IN C (in), 10 +IN C (in)
part D pins: 12 +IN D (in), 13 -IN D (in), 14 OUT D (out)

## AD8674ARUZ-REEL
designator U?
Quad Channel Wide Bandwidth Operational Amplifier, 10 MHz BW, 4 V/us SR, Industrial, 14-pin SOP (RU-14), Reel; Generic Part Number: AD8674; Manufacturer: Analog Devices; PartNumber: AD8674ARUZ-REEL; Amplifiers Per Package: 4; Input Bias Current: 3nA; Input Offset Voltage: 20uV; Iq/Amp: 3.5mA; Slew Rate: 4V/us; Small Signal Bandwidth: 10MHz; V Span Max: 36V; V Span Min: 10V; DatasheetVersion: Rev. E; PackageReference: RU-14; PackageDescription: 14-Pin Thin Shrink Small Outline Package, Body 5 x 4.4 mm, Pitch 0.65 mm; Supplier 1: Digi-Key; Supplier Part Number 1: AD8674ARUZ-REEL-ND; Supplier 2: Newark; Supplier Part Number 2: 59K7071; Mounting Technology: Surface Mount; Code_JEDEC: MO-153AB-1; ComponentLink1Description: Manufacturer URL; ComponentLink1URL: http://www.analog.com/en/index.html; ComponentLink2Description: Datasheet; ComponentLink2URL: http://www.analog.com/static/imported-files/data_sheets/AD8671_8672_8674.pdf; ComponentLink3Description: Package Specification; ComponentLink3URL: http://www.analog.com/static/imported-files/packages/36057385283879153717235186773RU14.pdf
footprint ADI-RU-14_N (SOP, 14-Leads, Body 5x4.4mm, Pitch 0.65mm, IPC Medium Density)
footprint ADI-RU-14_L (SOP, 14-Leads, Body 5x4.4mm, Pitch 0.65mm, IPC High Density)
footprint ADI-RU-14_M (SOP, 14-Leads, Body 5x4.4mm, Pitch 0.65mm, IPC Low Density)
pins on every part: 4 +V (power), 11 -V (power)
part A pins: 1 OUT A (out), 2 -IN A (in), 3 +IN A (in)
part B pins: 5 +IN B (in), 6 -IN B (in), 7 OUT B (out)
part C pins: 8 OUT C (out), 9 -IN C (in), 10 +IN C (in)
part D pins: 12 +IN D (in), 13 -IN D (in), 14 OUT D (out)

## AD8674ARZ
designator U?
Quad Channel Wide Bandwidth Operational Amplifier, 10 MHz BW, 4 V/us SR, Industrial, 14-pin SOIC (R-14), Tube; Generic Part Number: AD8674; Manufacturer: Analog Devices; PartNumber: AD8674ARZ; Amplifiers Per Package: 4; Input Bias Current: 3nA; Input Offset Voltage: 20uV; Iq/Amp: 3.5mA; Slew Rate: 4V/us; Small Signal Bandwidth: 10MHz; V Span Max: 36V; V Span Min: 10V; DatasheetVersion: Rev. E; PackageVersion: 060606-A; PackageReference: R-14; PackageDescription: 14-Pin Standard Small Outline Package, Body 8.65 x 3.9 mm, Pitch 1.27 mm; Supplier 1: Digi-Key; Supplier Part Number 1: AD8674ARZ-ND; Supplier 2: Farnell; Supplier Part Number 2: 1581959; Supplier 3: Newark; Supplier Part Number 3: 19M1000; Mounting Technology: Surface Mount; Code_JEDEC: MS-012-AB; ComponentLink1Description: Manufacturer URL; ComponentLink1URL: http://www.analog.com/en/index.html; ComponentLink2Description: Datasheet; ComponentLink2URL: http://www.analog.com/static/imported-files/data_sheets/AD8671_8672_8674.pdf; ComponentLink3Description: Package Specification; ComponentLink3URL: http://www.analog.com/static/imported-files/packages/PKG_PDF/SOIC_Narrow%20(R)/R_14.pdf
footprint ADI-R-14_N (SOIC, 14-Leads, Body 8.65x3.9mm, Pitch 1.27mm, IPC Medium Density)
footprint ADI-R-14_L (SOIC, 14-Leads, Body 8.65x3.9mm, Pitch 1.27mm, IPC High Density)
footprint ADI-R-14_M (SOIC, 14-Leads, Body 8.65x3.9mm, Pitch 1.27mm, IPC Low Density)
pins on every part: 4 +V (power), 11 -V (power)
part A pins: 1 OUT A (out), 2 -IN A (in), 3 +IN A (in)
part B pins: 5 +IN B (in), 6 -IN B (in), 7 OUT B (out)
part C pins: 8 OUT C (out), 9 -IN C (in), 10 +IN C (in)
part D pins: 12 +IN D (in), 13 -IN D (in), 14 OUT D (out)

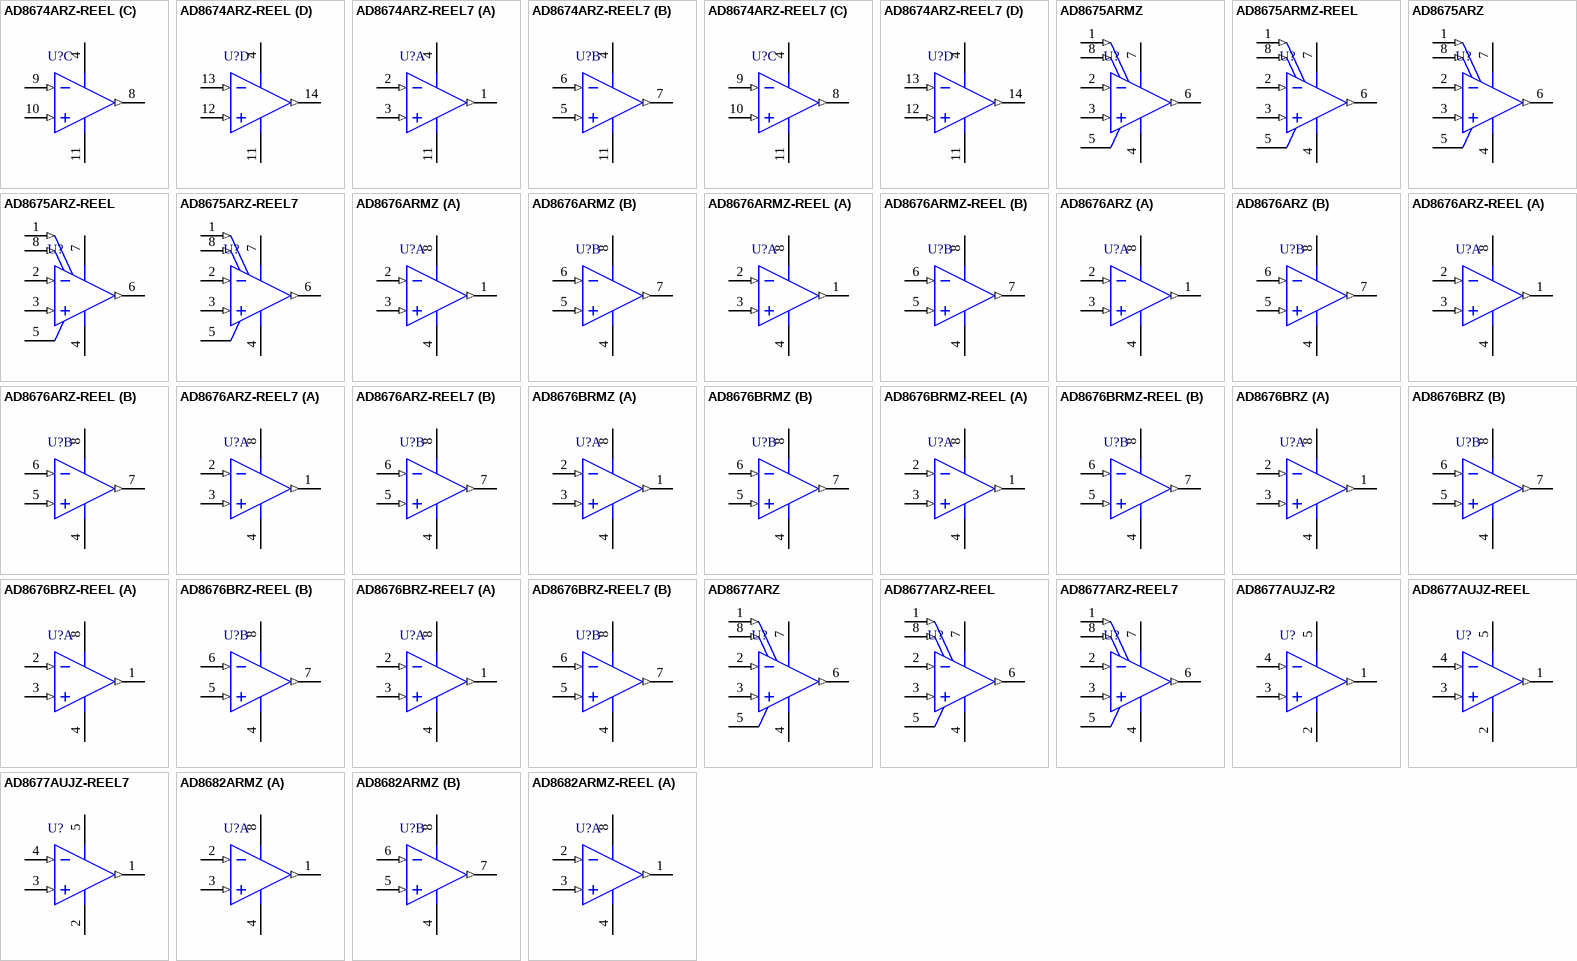
[diagram p68: symbols AD8674ARZ-REEL to AD8682ARMZ-REEL]

## AD8674ARZ-REEL
designator U?
Quad Channel Wide Bandwidth Operational Amplifier, 10 MHz BW, 4 V/us SR, Industrial, 14-pin SOIC (R-14), Reel; Generic Part Number: AD8674; Manufacturer: Analog Devices; PartNumber: AD8674ARZ-REEL; Amplifiers Per Package: 4; Input Bias Current: 3nA; Input Offset Voltage: 20uV; Iq/Amp: 3.5mA; Slew Rate: 4V/us; Small Signal Bandwidth: 10MHz; V Span Max: 36V; V Span Min: 10V; DatasheetVersion: Rev. E; PackageVersion: 060606-A; PackageReference: R-14; PackageDescription: 14-Pin Standard Small Outline Package, Body 8.65 x 3.9 mm, Pitch 1.27 mm; Supplier 1: Digi-Key; Supplier Part Number 1: AD8674ARZ-REEL-ND; Mounting Technology: Surface Mount; Code_JEDEC: MS-012-AB; ComponentLink1Description: Manufacturer URL; ComponentLink1URL: http://www.analog.com/en/index.html; ComponentLink2Description: Datasheet; ComponentLink2URL: http://www.analog.com/static/imported-files/data_sheets/AD8671_8672_8674.pdf; ComponentLink3Description: Package Specification; ComponentLink3URL: http://www.analog.com/static/imported-files/packages/PKG_PDF/SOIC_Narrow%20(R)/R_14.pdf
footprint ADI-R-14_N (SOIC, 14-Leads, Body 8.65x3.9mm, Pitch 1.27mm, IPC Medium Density)
footprint ADI-R-14_L (SOIC, 14-Leads, Body 8.65x3.9mm, Pitch 1.27mm, IPC High Density)
footprint ADI-R-14_M (SOIC, 14-Leads, Body 8.65x3.9mm, Pitch 1.27mm, IPC Low Density)
pins on every part: 4 +V (power), 11 -V (power)
part A pins: 1 OUT A (out), 2 -IN A (in), 3 +IN A (in)
part B pins: 5 +IN B (in), 6 -IN B (in), 7 OUT B (out)
part C pins: 8 OUT C (out), 9 -IN C (in), 10 +IN C (in)
part D pins: 12 +IN D (in), 13 -IN D (in), 14 OUT D (out)

## AD8674ARZ-REEL7
designator U?
Quad Channel Wide Bandwidth Operational Amplifier, 10 MHz BW, 4 V/us SR, Industrial, 14-pin SOIC (R-14), Reel; Generic Part Number: AD8674; Manufacturer: Analog Devices; PartNumber: AD8674ARZ-REEL7; Amplifiers Per Package: 4; Input Bias Current: 3nA; Input Offset Voltage: 20uV; Iq/Amp: 3.5mA; Slew Rate: 4V/us; Small Signal Bandwidth: 10MHz; V Span Max: 36V; V Span Min: 10V; DatasheetVersion: Rev. E; PackageVersion: 060606-A; PackageReference: R-14; PackageDescription: 14-Pin Standard Small Outline Package, Body 8.65 x 3.9 mm, Pitch 1.27 mm; Supplier 1: Digi-Key; Supplier Part Number 1: AD8674ARZ-REEL7TR-ND; Supplier 2: Digi-Key; Supplier Part Number 2: AD8674ARZ-REEL7CT-ND; Supplier 3: Digi-Key; Supplier Part Number 3: AD8674ARZ-REEL7DKR-ND; Mounting Technology: Surface Mount; Code_JEDEC: MS-012-AB; ComponentLink1Description: Manufacturer URL; ComponentLink1URL: http://www.analog.com/en/index.html; ComponentLink2Description: Datasheet; ComponentLink2URL: http://www.analog.com/static/imported-files/data_sheets/AD8671_8672_8674.pdf; ComponentLink3Description: Package Specification; ComponentLink3URL: http://www.analog.com/static/imported-files/packages/PKG_PDF/SOIC_Narrow%20(R)/R_14.pdf
footprint ADI-R-14_N (SOIC, 14-Leads, Body 8.65x3.9mm, Pitch 1.27mm, IPC Medium Density)
footprint ADI-R-14_L (SOIC, 14-Leads, Body 8.65x3.9mm, Pitch 1.27mm, IPC High Density)
footprint ADI-R-14_M (SOIC, 14-Leads, Body 8.65x3.9mm, Pitch 1.27mm, IPC Low Density)
pins on every part: 4 +V (power), 11 -V (power)
part A pins: 1 OUT A (out), 2 -IN A (in), 3 +IN A (in)
part B pins: 5 +IN B (in), 6 -IN B (in), 7 OUT B (out)
part C pins: 8 OUT C (out), 9 -IN C (in), 10 +IN C (in)
part D pins: 12 +IN D (in), 13 -IN D (in), 14 OUT D (out)

## AD8675ARMZ
designator U?
Single Channel Wide Bandwidth Operational Amplifier, 10 MHz BW, 2.5 V/us SR, Industrial, 8-pin SOP (RM-8), Tube; Generic Part Number: AD8675; Manufacturer: Analog Devices; PartNumber: AD8675ARMZ; Amplifiers Per Package: 1; Input Bias Current: 500pA; Input Offset Voltage: 10uV; Iq/Amp: 2.9mA; Small Signal Bandwidth: 10MHz; V Span Max: 36V; V Span Min: 10V; DatasheetVersion: Rev. E; PackageReference: RM-8; PackageDescription: 8-Pin Mini Small Outline Package, Body 3 x 3 mm, Pitch 0.65 mm; Supplier 1: Digi-Key; Supplier Part Number 1: AD8675ARMZ-ND; Supplier 2: Farnell; Supplier Part Number 2: 2074881; Supplier 3: Newark; Supplier Part Number 3: 76T1839; Supplier 4: Newark; Supplier Part Number 4: 34P3255; Slew Rate: 2.5V/us; Mounting Technology: Surface Mount; Code_JEDEC: MO-187-AA; ComponentLink1Description: Manufacturer URL; ComponentLink1URL: http://www.analog.com/en/index.html; ComponentLink2Description: Datasheet; ComponentLink2URL: http://www.analog.com/static/imported-files/data_sheets/AD8675.pdf; ComponentLink3Description: Package Specification; ComponentLink3URL: http://www.analog.com/static/imported-files/packages/PKG_PDF/MSOP%28RM%29/RM_8.pdf; ComponentLink4Description: Reference Circuit; ComponentLink4URL: http://www.analog.com/en/all-operational-amplifiers-op-amps/operational-amplifiers-op-amps/ad8675/products/product.html#product-recommendations
footprint ADI-RM-8_N (SOP, 8-Leads, Body 3x3mm, Pitch 0.65mm, IPC Medium Density)
footprint ADI-RM-8_L (SOP, 8-Leads, Body 3x3mm, Pitch 0.65mm, IPC High Density)
footprint ADI-RM-8_M (SOP, 8-Leads, Body 3x3mm, Pitch 0.65mm, IPC Low Density)
pins: 1 NULL (in), 2 -IN (in), 3 +IN (in), 4 -V (power), 5 NC, 6 OUT (out), 7 +V (power), 8 NULL (in)

## AD8675ARMZ-REEL
designator U?
Single Channel Wide Bandwidth Operational Amplifier, 10 MHz BW, 2.5 V/us SR, Industrial, 8-pin SOP (RM-8), Reel; Generic Part Number: AD8675; Manufacturer: Analog Devices; PartNumber: AD8675ARMZ-REEL; Amplifiers Per Package: 1; Input Bias Current: 500pA; Input Offset Voltage: 10uV; Iq/Amp: 2.9mA; Small Signal Bandwidth: 10MHz; V Span Max: 36V; V Span Min: 10V; DatasheetVersion: Rev. E; PackageReference: RM-8; PackageDescription: 8-Pin Mini Small Outline Package, Body 3 x 3 mm, Pitch 0.65 mm; Supplier 1: Digi-Key; Supplier Part Number 1: AD8675ARMZ-REELTR-ND; Supplier 2: Digi-Key; Supplier Part Number 2: AD8675ARMZ-REELCT-ND; Supplier 3: Digi-Key; Supplier Part Number 3: AD8675ARMZ-REELDKR-ND; Supplier 4: Newark; Supplier Part Number 4: 12M9158; Slew Rate: 2.5V/us; Mounting Technology: Surface Mount; Code_JEDEC: MO-187-AA; ComponentLink1Description: Manufacturer URL; ComponentLink1URL: http://www.analog.com/en/index.html; ComponentLink2Description: Datasheet; ComponentLink2URL: http://www.analog.com/static/imported-files/data_sheets/AD8675.pdf; ComponentLink3Description: Package Specification; ComponentLink3URL: http://www.analog.com/static/imported-files/packages/PKG_PDF/MSOP%28RM%29/RM_8.pdf; ComponentLink4Description: Reference Circuit; ComponentLink4URL: http://www.analog.com/en/all-operational-amplifiers-op-amps/operational-amplifiers-op-amps/ad8675/products/product.html#product-recommendations
footprint ADI-RM-8_N (SOP, 8-Leads, Body 3x3mm, Pitch 0.65mm, IPC Medium Density)
footprint ADI-RM-8_L (SOP, 8-Leads, Body 3x3mm, Pitch 0.65mm, IPC High Density)
footprint ADI-RM-8_M (SOP, 8-Leads, Body 3x3mm, Pitch 0.65mm, IPC Low Density)
pins: 1 NULL (in), 2 -IN (in), 3 +IN (in), 4 -V (power), 5 NC, 6 OUT (out), 7 +V (power), 8 NULL (in)

## AD8675ARZ
designator U?
Single Channel Wide Bandwidth Operational Amplifier, 10 MHz BW, 2.5 V/us SR, Industrial, 8-pin SOIC (R-8), Tube; Generic Part Number: AD8675; Manufacturer: Analog Devices; PartNumber: AD8675ARZ; Amplifiers Per Package: 1; Input Bias Current: 500pA; Input Offset Voltage: 10uV; Iq/Amp: 2.9mA; Small Signal Bandwidth: 10MHz; V Span Max: 36V; V Span Min: 10V; DatasheetVersion: Rev. E; PackageVersion: 060506-A; PackageReference: R-8; PackageDescription: 8-Pin Standard Small Outline Package, Body 3.9 x 4.9 mm, Pitch 1.27 mm; Supplier 1: Digi-Key; Supplier Part Number 1: AD8675ARZ-ND; Supplier 2: Farnell; Supplier Part Number 2: 1389164; Supplier 3: Newark; Supplier Part Number 3: 84K9788; Slew Rate: 2.5V/us; Mounting Technology: Surface Mount; Code_JEDEC: MS-012-AA; ComponentLink1Description: Manufacturer URL; ComponentLink1URL: http://www.analog.com/en/index.html; ComponentLink2Description: Datasheet; ComponentLink2URL: http://www.analog.com/static/imported-files/data_sheets/AD8675.pdf; ComponentLink3Description: Package Specification; ComponentLink3URL: http://www.analog.com/static/imported-files/packages/PKG_PDF/SOIC_Narrow%20(R)/R_8.pdf; ComponentLink4Description: Reference Circuit; ComponentLink4URL: http://www.analog.com/en/all-operational-amplifiers-op-amps/operational-amplifiers-op-amps/ad8675/products/product.html#product-recommendations
footprint ADI-R-8_N (SOIC, 8-Leads, Body 4.9x3.9mm, Pitch 1.27mm, IPC Medium Density)
footprint ADI-R-8_L (SOIC, 8-Leads, Body 4.9x3.9mm, Pitch 1.27mm, IPC High Density)
footprint ADI-R-8_M (SOIC, 8-Leads, Body 4.9x3.9mm, Pitch 1.27mm, IPC Low Density)
pins: 1 NULL (in), 2 -IN A (in), 3 +IN A (in), 4 V- (power), 5 NC, 6 OUT A (out), 7 V+ (power), 8 NULL (in)

## AD8675ARZ-REEL
designator U?
Single Channel Wide Bandwidth Operational Amplifier, 10 MHz BW, 2.5 V/us SR, Industrial, 8-pin SOIC (R-8), Reel; Generic Part Number: AD8675; Manufacturer: Analog Devices; PartNumber: AD8675ARZ-REEL; Amplifiers Per Package: 1; Input Bias Current: 500pA; Input Offset Voltage: 10uV; Iq/Amp: 2.9mA; Small Signal Bandwidth: 10MHz; V Span Max: 36V; V Span Min: 10V; DatasheetVersion: Rev. E; PackageVersion: 060506-A; PackageReference: R-8; PackageDescription: 8-Pin Standard Small Outline Package, Body 3.9 x 4.9 mm, Pitch 1.27 mm; Supplier 1: Digi-Key; Supplier Part Number 1: AD8675ARZ-REEL-ND; Supplier 2: Newark; Supplier Part Number 2: 12M9160; Slew Rate: 2.5V/us; Mounting Technology: Surface Mount; Code_JEDEC: MS-012-AA; ComponentLink1Description: Manufacturer URL; ComponentLink1URL: http://www.analog.com/en/index.html; ComponentLink2Description: Datasheet; ComponentLink2URL: http://www.analog.com/static/imported-files/data_sheets/AD8675.pdf; ComponentLink3Description: Package Specification; ComponentLink3URL: http://www.analog.com/static/imported-files/packages/PKG_PDF/SOIC_Narrow%20(R)/R_8.pdf; ComponentLink4Description: Reference Circuit; ComponentLink4URL: http://www.analog.com/en/all-operational-amplifiers-op-amps/operational-amplifiers-op-amps/ad8675/products/product.html#product-recommendations
footprint ADI-R-8_N (SOIC, 8-Leads, Body 4.9x3.9mm, Pitch 1.27mm, IPC Medium Density)
footprint ADI-R-8_L (SOIC, 8-Leads, Body 4.9x3.9mm, Pitch 1.27mm, IPC High Density)
footprint ADI-R-8_M (SOIC, 8-Leads, Body 4.9x3.9mm, Pitch 1.27mm, IPC Low Density)
pins: 1 NULL (in), 2 -IN A (in), 3 +IN A (in), 4 V- (power), 5 NC, 6 OUT A (out), 7 V+ (power), 8 NULL (in)

## AD8675ARZ-REEL7
designator U?
Single Channel Wide Bandwidth Operational Amplifier, 10 MHz BW, 2.5 V/us SR, Industrial, 8-pin SOIC (R-8), Reel; Generic Part Number: AD8675; Manufacturer: Analog Devices; PartNumber: AD8675ARZ-REEL7; Amplifiers Per Package: 1; Input Bias Current: 500pA; Input Offset Voltage: 10uV; Iq/Amp: 2.9mA; Small Signal Bandwidth: 10MHz; V Span Max: 36V; V Span Min: 10V; DatasheetVersion: Rev. E; PackageVersion: 060506-A; PackageReference: R-8; PackageDescription: 8-Pin Standard Small Outline Package, Body 3.9 x 4.9 mm, Pitch 1.27 mm; Supplier 1: Digi-Key; Supplier Part Number 1: AD8675ARZ-REEL7TR-ND; Supplier 2: Digi-Key; Supplier Part Number 2: AD8675ARZ-REEL7CT-ND; Supplier 3: Digi-Key; Supplier Part Number 3: AD8675ARZ-REEL7DKR-ND; Slew Rate: 2.5V/us; Mounting Technology: Surface Mount; Code_JEDEC: MS-012-AA; ComponentLink1Description: Manufacturer URL; ComponentLink1URL: http://www.analog.com/en/index.html; ComponentLink2Description: Datasheet; ComponentLink2URL: http://www.analog.com/static/imported-files/data_sheets/AD8675.pdf; ComponentLink3Description: Package Specification; ComponentLink3URL: http://www.analog.com/static/imported-files/packages/PKG_PDF/SOIC_Narrow%20(R)/R_8.pdf; ComponentLink4Description: Reference Circuit; ComponentLink4URL: http://www.analog.com/en/all-operational-amplifiers-op-amps/operational-amplifiers-op-amps/ad8675/products/product.html#product-recommendations
footprint ADI-R-8_N (SOIC, 8-Leads, Body 4.9x3.9mm, Pitch 1.27mm, IPC Medium Density)
footprint ADI-R-8_L (SOIC, 8-Leads, Body 4.9x3.9mm, Pitch 1.27mm, IPC High Density)
footprint ADI-R-8_M (SOIC, 8-Leads, Body 4.9x3.9mm, Pitch 1.27mm, IPC Low Density)
pins: 1 NULL (in), 2 -IN A (in), 3 +IN A (in), 4 V- (power), 5 NC, 6 OUT A (out), 7 V+ (power), 8 NULL (in)

## AD8676ARMZ
designator U?
Double Channel Wide Bandwidth Operational Amplifier, 10 MHz BW, 2.5 V/us SR, Industrial, 8-pin SOP (RM-8), Tube; Generic Part Number: AD8676; Manufacturer: Analog Devices; PartNumber: AD8676ARMZ; Amplifiers Per Package: 2; Input Bias Current: 2.4nA; Input Offset Voltage: 12uV; Iq/Amp: 2.7mA; Small Signal Bandwidth: 10MHz; V Span Max: 36V; V Span Min: 10V; DatasheetVersion: Rev. C; PackageReference: RM-8; PackageDescription: 8-Pin Mini Small Outline Package, Body 3 x 3 mm, Pitch 0.65 mm; Supplier 1: Digi-Key; Supplier Part Number 1: AD8676ARMZ-ND; Supplier 2: Farnell; Supplier Part Number 2: 1776909; Supplier 3: Newark; Supplier Part Number 3: 45P6471; Slew Rate: 2.5V/us; Mounting Technology: Surface Mount; Code_JEDEC: MO-187-AA; ComponentLink1Description: Manufacturer URL; ComponentLink1URL: http://www.analog.com/en/index.html; ComponentLink2Description: Datasheet; ComponentLink2URL: http://www.analog.com/static/imported-files/data_sheets/AD8676.pdf; ComponentLink3Description: Package Specification; ComponentLink3URL: http://www.analog.com/static/imported-files/packages/PKG_PDF/MSOP%28RM%29/RM_8.pdf; ComponentLink4Description: Reference Circuit; ComponentLink4URL: http://www.analog.com/en/all-operational-amplifiers-op-amps/operational-amplifiers-op-amps/ad8676/products/product.html#product-recommendations
footprint ADI-RM-8_N (SOP, 8-Leads, Body 3x3mm, Pitch 0.65mm, IPC Medium Density)
footprint ADI-RM-8_L (SOP, 8-Leads, Body 3x3mm, Pitch 0.65mm, IPC High Density)
footprint ADI-RM-8_M (SOP, 8-Leads, Body 3x3mm, Pitch 0.65mm, IPC Low Density)
pins on every part: 4 -V (power), 8 +V (power)
part A pins: 1 OUT A (out), 2 -IN A (in), 3 +IN A (in)
part B pins: 5 +IN B (in), 6 -IN B (in), 7 OUT B (out)